# Altium footprint library keystone_fuseholder_3568.PcbLib: 1 footprints
Each footprint in its own frame and in the unit in brackets; x right, y up, seen from the top. Pads: shape width x height; smd on the part's side, far side on the other; paste and mask are expansions set on the pad; w line width, h text height; cw(c..) or ccw(c..) is an arc to the next point about the centre after c.
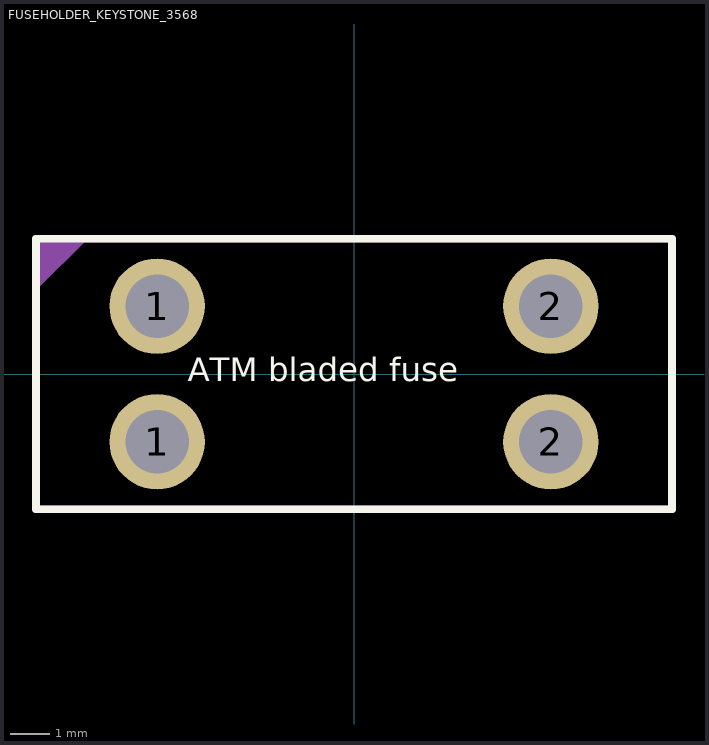
[diagram p0: the footprint, top view; thin cyan lines are the x and y axes]

## FUSEHOLDER_KEYSTONE_3568 [mm]
height 7.4
pads (4):
  round 2.4 hole 1.6: 1(-4.95,-1.705) 1(-4.95,1.705) 2(4.95,-1.705) 2(4.95,1.705)
Top Overlay:
  lines w0.2: -8,-3.4 -8,3.4 8,3.4 8,-3.4 -8,-3.4
  text "ATM bladed fuse" at -4.18,-0.18 h0.6
Top Courtyard:
  region: -8,3.4 -6.7,3.4 -8,2.1
  lines w0.2: -8,-3.4 -8,3.4 8,3.4 8,-3.4 -8,-3.4
Top Designator:
  text ".Designator" at -1.28,-0.18 h0.6
3D body "3568.step": height 7.38, standoff -2.78, extent -8.001,-3.365 8.001,3.366